# Altium footprint library SamacSys.PcbLib: 11 footprints
Each footprint in its own frame and in the unit in brackets; x right, y up, seen from the top. Pads: shape width x height; smd on the part's side, far side on the other; paste and mask are expansions set on the pad; w line width, h text height; cw(c..) or ccw(c..) is an arc to the next point about the centre after c.
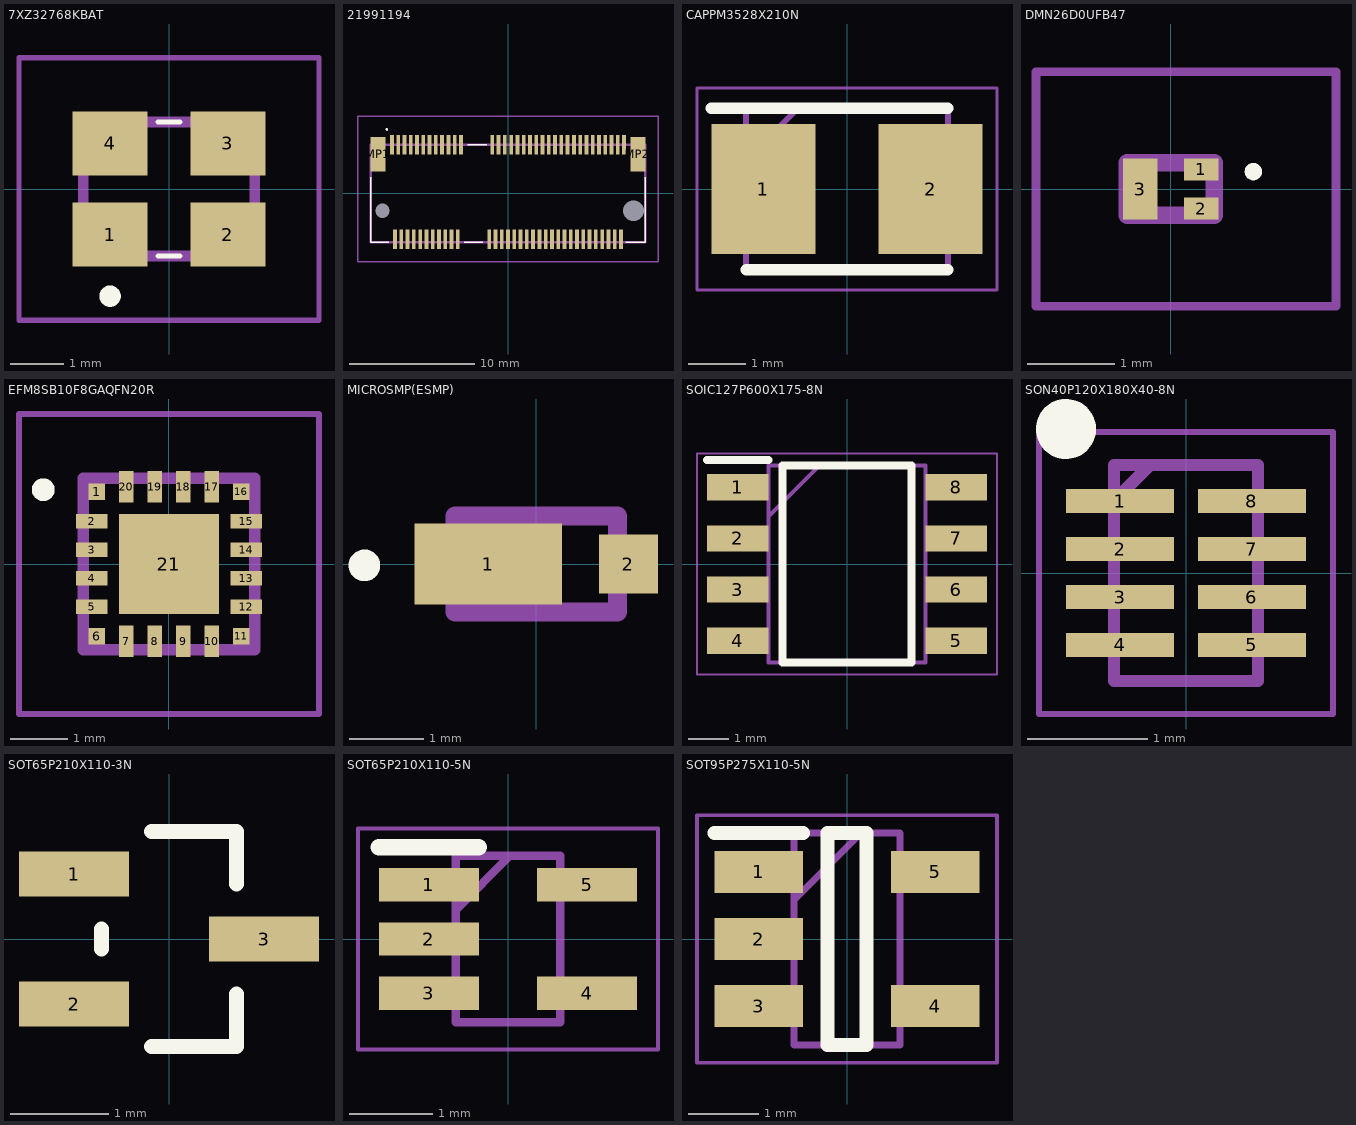
[diagram p0: the footprints below, top view; thin cyan lines are the x and y axes]

## 7XZ32768KBAT [mm]
pads (4):
  rect 1.4x1.2 smd: 1(-1.1,-0.85) 2(1.1,-0.85) 3(1.1,0.85) 4(-1.1,0.85)
Top Overlay:
  lines w0.1: -0.2,-1.25 0.2,-1.25 ; -0.2,1.25 0.2,1.25
  lines w0.2: -1.2,-2 ccw(c-1.1,-2) -1,-2 ccw(c-1.1,-2) -1.2,-2
Mechanical 13:
  lines w0.2: -1.6,-1.25 1.6,-1.25 1.6,1.25 -1.6,1.25 -1.6,-1.25
Mechanical 15:
  lines w0.1: -2.8,-2.45 2.8,-2.45 2.8,2.45 -2.8,2.45 -2.8,-2.45
3D body "7XZ-32.768KBA-T.stp": height 1.2, standoff 0, extent -1.68,-1.33 1.68,1.33

## 21991194 [mm]
pads (71):
  rect 0.3x1.55 smd: 1(-9.25,3.888) 2(-9,-3.662) 3(-8.75,3.888) 4(-8.5,-3.662) 5(-8.25,3.888) 6(-8,-3.662) 7(-7.75,3.888) 8(-7.5,-3.662) 9(-7.25,3.888) 10(-7,-3.662) 11(-6.75,3.888) 12(-6.5,-3.662) 13(-6.25,3.888) 14(-6,-3.662) 15(-5.75,3.888) 16(-5.5,-3.662) 17(-5.25,3.888) 18(-5,-3.662) 19(-4.75,3.888) 20(-4.5,-3.662) 21(-4.25,3.888) 22(-4,-3.662) 23(-3.75,3.888) 32(-1.5,-3.662) 33(-1.25,3.888) 34(-1,-3.662) 35(-0.75,3.888) 36(-0.5,-3.662) 37(-0.25,3.888) 38(0,-3.662) 39(0.25,3.888) 40(0.5,-3.662) 41(0.75,3.888) 42(1,-3.662) 43(1.25,3.888) 44(1.5,-3.662) 45(1.75,3.888) 46(2,-3.662) 47(2.25,3.888) 48(2.5,-3.662) 49(2.75,3.888) 50(3,-3.662) 51(3.25,3.888) 52(3.5,-3.662) 53(3.75,3.888) 54(4,-3.662) 55(4.25,3.888) 56(4.5,-3.662) 57(4.75,3.888) 58(5,-3.662) 59(5.25,3.888) 60(5.5,-3.662) 61(5.75,3.888) 62(6,-3.662) 63(6.25,3.888) 64(6.5,-3.662) 65(6.75,3.888) 66(7,-3.662) 67(7.25,3.888) 68(7.5,-3.662) 69(7.75,3.888) 70(8,-3.662) 71(8.25,3.888) 72(8.5,-3.662) 73(8.75,3.888) 74(9,-3.662) 75(9.25,3.888)
  round 0.575 hole 1.15 unplated: MH1(-10,-1.387)
  round 0.825 hole 1.65 unplated: MH2(10,-1.387)
  rect 1.2x2.75 smd: MP1(-10.35,3.112) MP2(10.35,3.112)
Top Overlay:
  lines w0.1: -10.95,1.312 -10.95,-3.888 -9.5,-3.888 ; -3.5,-3.888 -2,-3.888 ; -3.2,3.888 -1.7,3.888 ; 9.4,-3.888 10.95,-3.888 10.95,1.312 ; -9.7,5.1 ccw(c-9.65,5.1) -9.6,5.1 ccw(c-9.65,5.1) -9.7,5.1
Mechanical 13:
  lines w0.2: -10.95,-3.888 -10.95,3.862 10.95,3.862 10.95,-3.888 -10.95,-3.888
Mechanical 15:
  lines w0.1: -11.95,-5.438 -11.95,6.15 11.95,6.15 11.95,-5.438 -11.95,-5.438
3D body "2199119-4.stp": height 3.3, standoff -1.7, extent -10.95,-4.407 10.95,4.633

## CAPPM3528X210N [mm]
pads (2):
  rect 1.8x2.25 smd: 1(-1.45,0) 2(1.45,0)
Top Overlay:
  lines w0.2: -2.35,1.4 1.75,1.4 ; -1.75,-1.4 1.75,-1.4
Mechanical 13:
  lines w0.1: -1.75,0.5 -0.85,1.4 ; -1.75,-1.4 -1.75,1.4 1.75,1.4 1.75,-1.4 -1.75,-1.4
Mechanical 15:
  lines w0.05: -2.6,-1.75 -2.6,1.75 2.6,1.75 2.6,-1.75 -2.6,-1.75
3D body "T520B337M006ATE040.stp": height 2.1, standoff 0, extent -1.75,-1.4 1.75,1.4

## DMN26D0UFB47 [mm]
pads (3):
  rect 0.4x0.25 smd: 1(0.35,0.225) 2(0.35,-0.225)
  rect 0.4x0.7 smd: 3(-0.35,0)
Top Overlay:
  lines w0.1: 0.9,0.2 cw(c0.95,0.2) 1,0.2 cw(c0.95,0.2) 0.9,0.2
Mechanical 13:
  lines w0.2: -0.5,-0.3 0.5,-0.3 0.5,0.3 -0.5,0.3 -0.5,-0.3
Mechanical 15:
  lines w0.1: -1.55,-1.35 1.9,-1.35 1.9,1.35 -1.55,1.35 -1.55,-1.35
3D body "DMN26D0UFB4-7.stp": height 0.5, standoff 0, extent -0.51,-0.325 0.525,0.325

## EFM8SB10F8GAQFN20R [mm]
pads (21):
  rect 0.29x0.29 smd: 1(-1.265,1.265) 6(-1.265,-1.265) 11(1.265,-1.265) 16(1.265,1.265)
  rect 0.55x0.25 smd: 2(-1.35,0.75) 3(-1.35,0.25) 4(-1.35,-0.25) 5(-1.35,-0.75) 12(1.351,-0.75) 13(1.351,-0.25) 14(1.351,0.25) 15(1.351,0.75)
  rect 0.25x0.55 smd: 7(-0.75,-1.35) 8(-0.25,-1.35) 9(0.25,-1.35) 10(0.75,-1.35) 17(0.75,1.35) 18(0.25,1.35) 19(-0.25,1.35) 20(-0.75,1.35)
  rect 1.75x1.75 smd: 21(0,0)
Top Overlay:
  lines w0.2: -2.3,1.3 ccw(c-2.2,1.3) -2.1,1.3 ccw(c-2.2,1.3) -2.3,1.3
Mechanical 13:
  lines w0.2: -1.5,-1.5 -1.5,1.5 1.5,1.5 1.5,-1.5 -1.5,-1.5
Mechanical 15:
  lines w0.1: -2.625,-2.625 -2.625,2.625 2.626,2.625 2.626,-2.625 -2.625,-2.625
3D body "EFM8SB10F2G-A-QFN20.stp": height 0.7, standoff 0, extent -1.5,-1.5 1.5,1.5

## MICROSMP(ESMP) [mm]
pads (2):
  rect 2x1.1 smd: 1(-0.65,0)
  rect 0.8x0.8 smd: 2(1.25,0)
Top Overlay:
  circle w0.254: c-2.326,-0.019 r0.087
Mechanical 13:
  lines w0.254: -1.1,-0.65 -1.1,0.65 1.1,0.65 1.1,-0.65 -1.1,-0.65

## SOIC127P600X175-8N [mm]
pads (8):
  rect 1.525x0.65 smd: 1(-2.712,1.905) 2(-2.712,0.635) 3(-2.712,-0.635) 4(-2.712,-1.905) 5(2.712,-1.905) 6(2.712,-0.635) 7(2.712,0.635) 8(2.712,1.905)
Top Overlay:
  lines w0.2: -3.475,2.58 -1.95,2.58 ; -1.6,-2.45 -1.6,2.45 1.6,2.45 1.6,-2.45 -1.6,-2.45
Mechanical 13:
  lines w0.1: -1.95,1.18 -0.68,2.45 ; -1.95,-2.45 -1.95,2.45 1.95,2.45 1.95,-2.45 -1.95,-2.45
Mechanical 15:
  lines w0.05: -3.725,-2.75 -3.725,2.75 3.725,2.75 3.725,-2.75 -3.725,-2.75
3D body "NE555DR.stp": height 1.75, standoff 0, extent -3,-2.45 3,2.45

## SON40P120X180X40-8N [mm]
pads (8):
  rect 0.9x0.2 smd: 1(-0.55,0.6) 2(-0.55,0.2) 3(-0.55,-0.2) 4(-0.55,-0.6) 5(0.55,-0.6) 6(0.55,-0.2) 7(0.55,0.2) 8(0.55,0.6)
Top Overlay:
  circle w0.25: c-1,1.2 r0.125
Mechanical 13:
  lines w0.1: -0.6,0.6 -0.3,0.9 ; -0.6,-0.9 -0.6,0.9 0.6,0.9 0.6,-0.9 -0.6,-0.9
Mechanical 15:
  lines w0.05: -1.225,-1.175 -1.225,1.175 1.225,1.175 1.225,-1.175 -1.225,-1.175
3D body "TXB0302DQMR.stp": height 0.4, standoff 0, extent -0.65,-0.9 0.65,0.9

## SOT65P210X110-3N [mil]
pads (3):
  rect 44x18 smd: 1(-38,26) 2(-38,-26) 3(38,0)
Top Overlay:
  lines w6: -27,-4 -27,4 ; -7,-43 27,-43 27,-22 ; -7,43 12,43 27,43 27,22

## SOT65P210X110-5N [mm]
pads (5):
  rect 1.2x0.4 smd: 1(-0.95,0.65) 2(-0.95,0) 3(-0.95,-0.65) 4(0.95,-0.65) 5(0.95,0.65)
Top Overlay:
  lines w0.2: -1.55,1.1 -0.35,1.1
Mechanical 13:
  lines w0.1: -0.625,0.35 0.025,1 ; -0.625,-1 -0.625,1 0.625,1 0.625,-1 -0.625,-1
Mechanical 15:
  lines w0.05: -1.8,-1.325 -1.8,1.325 1.8,1.325 1.8,-1.325 -1.8,-1.325
3D body "SN74LVC1G07DCKRE4.stp": height 1.1, standoff 0, extent -1.05,-1 1.05,1

## SOT95P275X110-5N [mm]
pads (5):
  rect 1.25x0.6 smd: 1(-1.25,0.95) 2(-1.25,0) 3(-1.25,-0.95) 4(1.25,-0.95) 5(1.25,0.95)
Top Overlay:
  lines w0.2: -1.875,1.5 -0.625,1.5 ; -0.275,-1.5 -0.275,1.5 0.275,1.5 0.275,-1.5 -0.275,-1.5
Mechanical 13:
  lines w0.1: -0.75,0.55 0.2,1.5 ; -0.75,-1.5 -0.75,1.5 0.75,1.5 0.75,-1.5 -0.75,-1.5
Mechanical 15:
  lines w0.05: -2.125,-1.75 -2.125,1.75 2.125,1.75 2.125,-1.75 -2.125,-1.75
3D body "NCP301LSN20T1G.stp": height 1.1, standoff 0, extent -1.375,-1.5 1.375,1.5